# EAGLE library part MX140L-194270049 (library MXL150)
Molex MX150L - 1942700049 ---- Maximum per contact: 18A ---- Maxium Voltage:600V --- IP67 RATING --- Pitch: 5.84 mm --- Datasheet: https://www.molex.com/webdocs/datasheets/pdf/en-us/0194270049_PCB_HEADERS.pdf ---- Drawing----- https://www.molex.com/pdm_docs/sd/194270049_sd.pdf
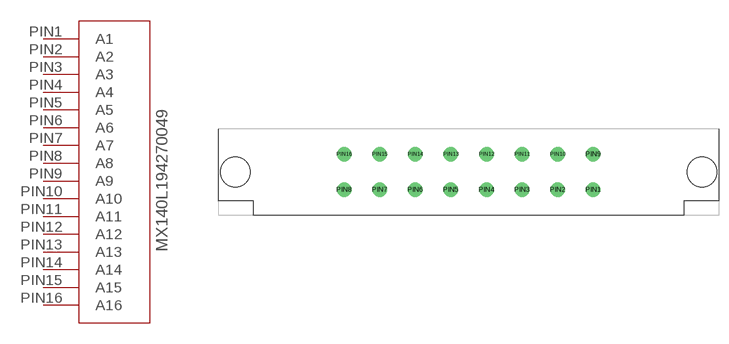
[diagram p0: symbol with the pads of MX150L-194270049; footprint MX150L-194270049]

Designator prefix -

## MX140L-194270049  [MX150L-194270049]
PIN1  A1
PIN2  A2
PIN3  A3
PIN4  A4
PIN5  A5
PIN6  A6
PIN7  A7
PIN8  A8
PIN9  A9
PIN10  A10
PIN11  A11
PIN12  A12
PIN13  A13
PIN14  A14
PIN15  A15
PIN16  A16

## Footprint MX150L-194270049 (pad centres in mm)
drill 1.6: PIN1 20.51,-2.93; PIN2 14.65,-2.93; PIN3 8.79,-2.93; PIN4 2.93,-2.93; PIN5 -2.93,-2.93; PIN6 -8.79,-2.93; PIN7 -14.65,-2.93; PIN8 -20.51,-2.93; PIN9 20.51,2.92; PIN10 14.65,2.92; PIN11 8.79,2.92; PIN12 2.93,2.92; PIN13 -2.93,2.92; PIN14 -8.79,2.92; PIN15 -14.65,2.92; PIN16 -20.51,2.92
hole 4.86 at -38.38,0
hole 4.86 at 38.38,0